# Altium schematic symbol library Schlib1.SchLib: 1 symbol
Pins are listed as number, name and electrical type; pins without a type are passive.

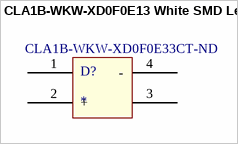
[diagram p0: symbol CLA1B-WKW-XD0F0E13 White SMD Led]

## CLA1B-WKW-XD0F0E13 White SMD Led
designator D?  Supplier Part Number 1: CLA1B-WKW-XD0F0E33CT-ND
Supplier 1: Digi-Key
footprint CLA1B-WKW-XD0F0E13 White SMD Led
pins: 1 5, 2 +, 3, 4 -